# EAGLE library part MAINBOARD_SI4684-A10-GM (library Mainboard)
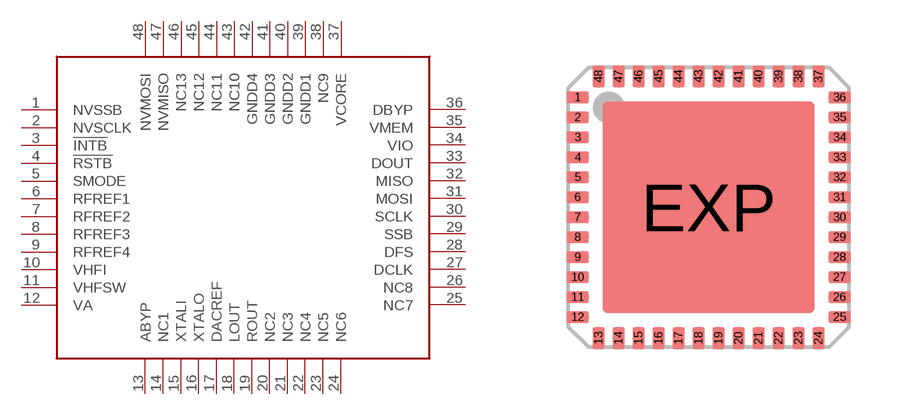
[diagram p0: symbol with the pads of MAINBOARD_QFN48; footprint MAINBOARD_QFN48]

Designator prefix -

## MAINBOARD_SI4684-A10-GMQF  [MAINBOARD_QFN48]
1  NVSSB
2  NVSCLK
3  !INTB
4  !RSTB
5  SMODE
6  RFREF1
7  RFREF2
8  RFREF3
9  RFREF4
10  VHFI
11  VHFSW
12  VA
13  ABYP
14  NC1  nc
15  XTALI
16  XTALO
17  DACREF
18  LOUT
19  ROUT
20  NC2  nc
21  NC3  nc
22  NC4  nc
23  NC5  nc
24  NC6  nc
25  NC7  nc
26  NC8  nc
27  DCLK
28  DFS
29  SSB
30  SCLK
31  MOSI
32  MISO
33  DOUT
34  VIO
35  VMEM
36  DBYP
37  VCORE
38  NC9  nc
39  GNDD1
40  GNDD2
41  GNDD3
42  GNDD4
43  NC10  nc
44  NC11  nc
45  NC12  nc
46  NC13  nc
47  NVMISO
48  NVMOSI

## Footprint MAINBOARD_QFN48 (pad centres in mm)
48-pin QFN 7 x 7 mm LF48 48 Quad Flat Package No Leads Source: http://v4.cypress.com/cfuploads/img/products/cywusb6934.pdf
smd 0.55 x 0.3: 1 -3.275,2.75; 2 -3.275,2.25; 3 -3.275,1.75; 4 -3.275,1.25; 5 -3.275,0.75; 6 -3.275,0.25; 7 -3.275,-0.25; 8 -3.275,-0.75; 9 -3.275,-1.25; 10 -3.275,-1.75; 11 -3.275,-2.25; 12 -3.275,-2.75; 25 3.275,-2.75; 26 3.275,-2.25; 27 3.275,-1.75; 28 3.275,-1.25; 29 3.275,-0.75; 30 3.275,-0.25; 31 3.275,0.25; 32 3.275,0.75; 33 3.275,1.25; 34 3.275,1.75; 35 3.275,2.25; 36 3.275,2.75
smd 0.3 x 0.55: 13 -2.75,-3.275; 14 -2.25,-3.275; 15 -1.75,-3.275; 16 -1.25,-3.275; 17 -0.75,-3.275; 18 -0.25,-3.275; 19 0.25,-3.275; 20 0.75,-3.275; 21 1.25,-3.275; 22 1.75,-3.275; 23 2.25,-3.275; 24 2.75,-3.275; 37 2.75,3.275; 38 2.25,3.275; 39 1.75,3.275; 40 1.25,3.275; 41 0.75,3.275; 42 0.25,3.275; 43 -0.25,3.275; 44 -0.75,3.275; 45 -1.25,3.275; 46 -1.75,3.275; 47 -2.25,3.275; 48 -2.75,3.275
smd 5.309 x 5.309: EXP 0,0